# EAGLE library part IRS20752 (library infineon)
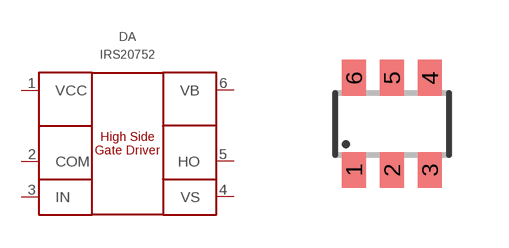
[diagram p7: symbol with the pads of SOT23-6; footprint SOT23-6]

Designator prefix DA

## IRS20752LPBF  [SOT23-6]
1  VCC  pwr
2  COM  pwr
3  IN  in
4  VS  pwr
5  HO  out
6  VB  pwr

## Footprint SOT23-6 (pad centres in mm)
Small Outline Transistor 6 lead
smd 0.6 x 0.9: 1 -0.95,-1.15; 2 0,-1.15; 3 0.95,-1.15; 4 0.95,1.15; 5 0,1.15; 6 -0.95,1.15